# EAGLE library part ECH4 (library radiotubes)
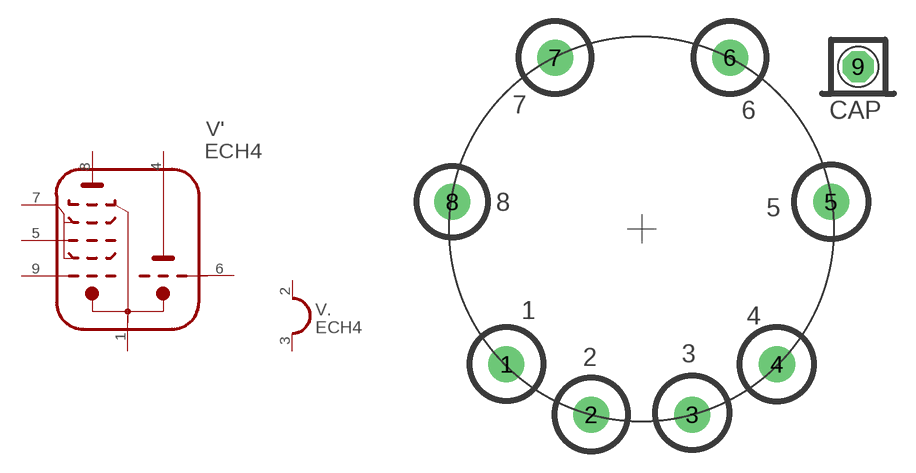
[diagram p108: symbol with the pads of P8CAP; footprint P8CAP]

Designator prefix V; gates '=TRI-HEP .=HEATER_1

## ECH4  [P8CAP]
1  ':K  pas
2  .:H1  pas
3  .:H2  pas
4  ':TA  pas
5  ':HG3  pas
6  ':TG  pas
7  ':HSG  pas
8  ':HA  pas
9  ':HG1  pas

## Footprint P8CAP (pad centres in mm)
drill 1.27 pad 2.54: 1 -9.525,-9.525; 2 -3.556,-13.081; 3 3.556,-13.081; 4 9.525,-9.525; 5 13.335,1.905; 6 6.223,12.065; 7 -6.096,12.065; 8 -13.335,1.905
drill 0.813 pad 2.184 octagon: 9 15.24,11.43